# Altium integrated library Lattice Semiconductor ECP3.IntLib: 126 symbols (part 8 of 29)
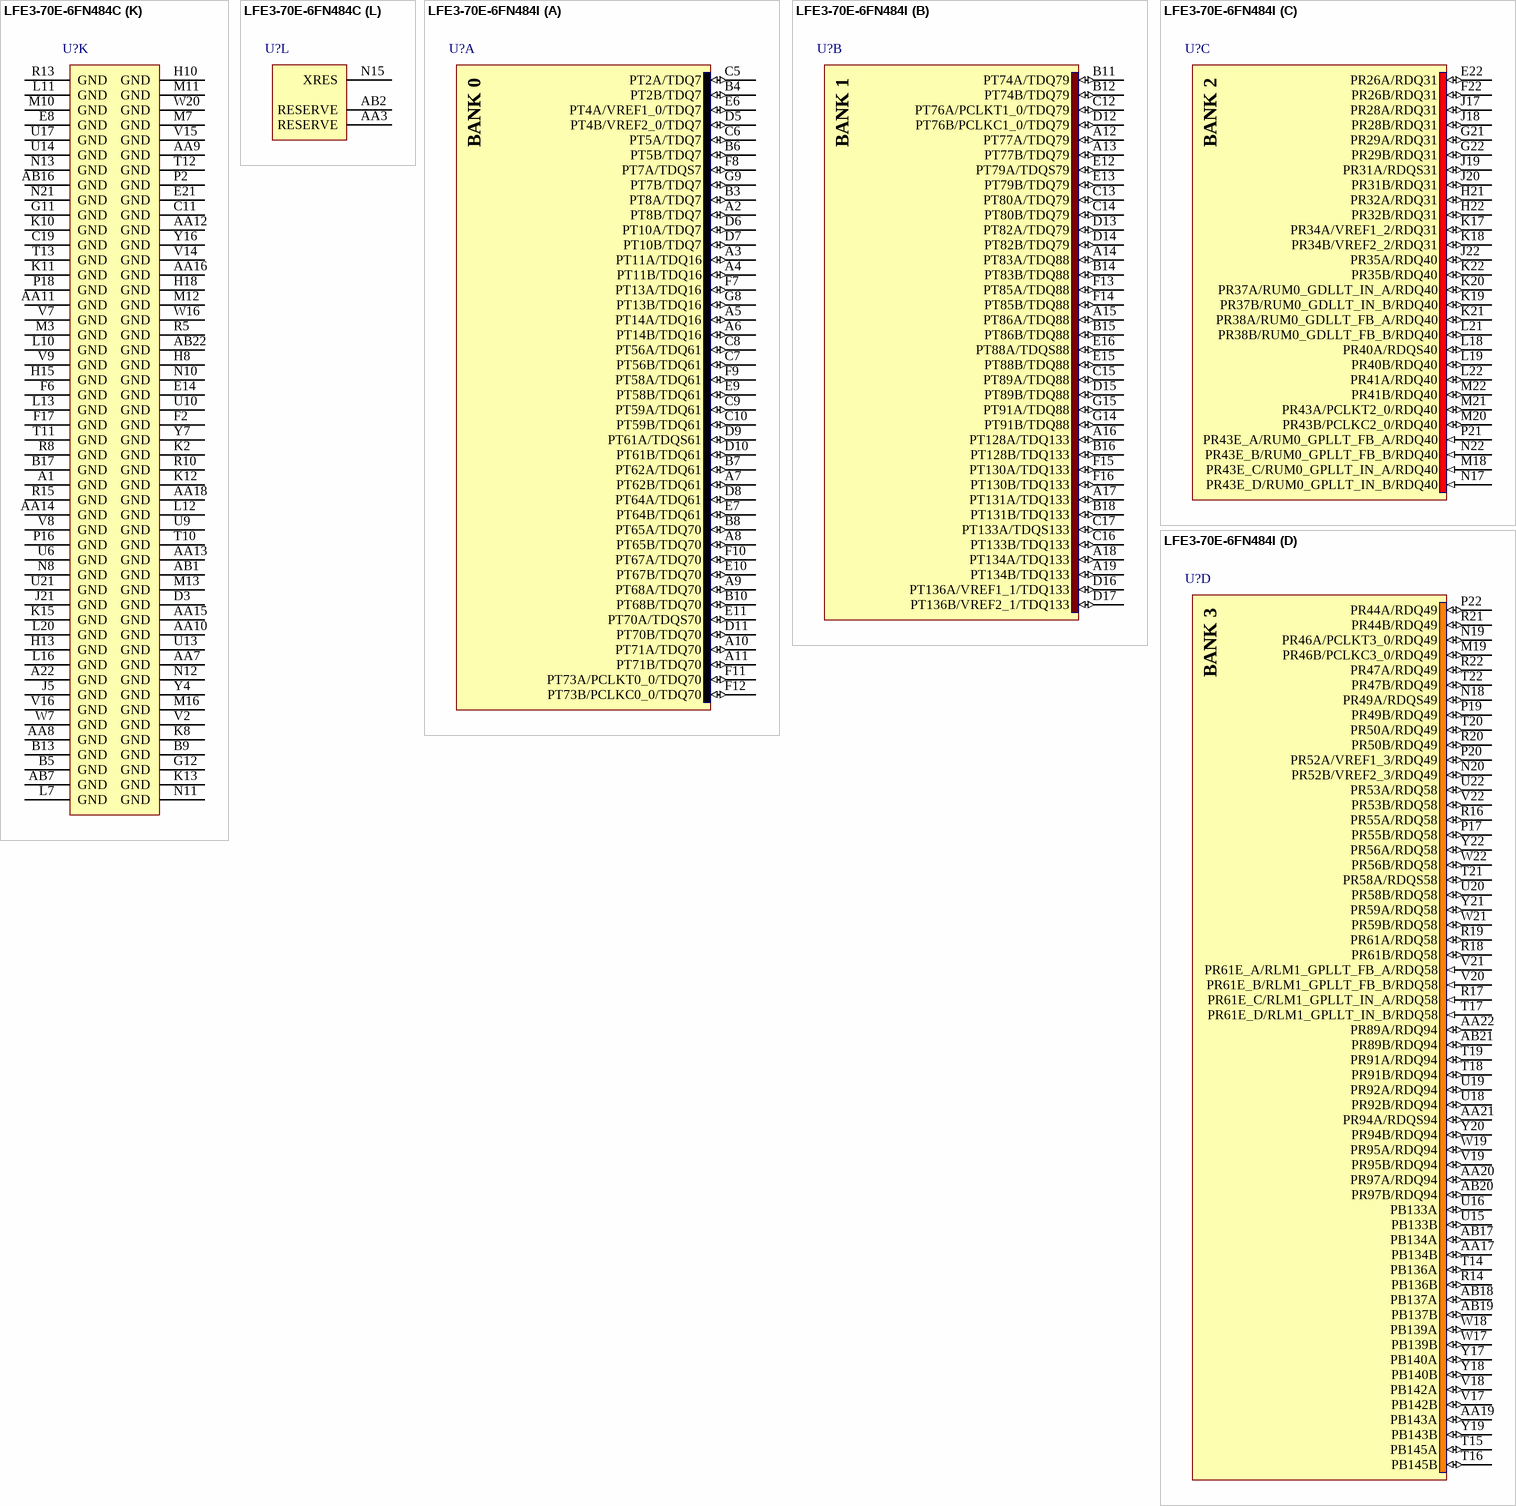
[diagram p362: symbols LFE3-70E-6FN484C to LFE3-70E-6FN484I]

## LFE3-70E-6FN484C
designator U?
ECP3 1.2V FPGA, 295 I/Os, 67K LUTs, 484-Pin BGA, Speed Grade 6, Commercial Grade, Pb-Free; DatasheetVersion: Ver 01.6, Mar-2010; PackageVersion: ver02.8, Jul-2011; PackageReference: fpBGA484; PackageDescription: 484-Ball Fine Pitch Ball Grid Array (fpBGA484); Code_IPC: BGA100P22X22-484; ComponentLink1Description: Manufacturer URL; ComponentLink1URL: http://www.latticesemi.com/
footprint fpBGA484 (BGA, 484-Leads, Body 23x23mm, Pitch 1mm)
part A pins: A2 PT8B/TDQ7 (io), A3 PT11A/TDQ16 (io), A4 PT11B/TDQ16 (io), A5 PT14A/TDQ16 (io), A6 PT14B/TDQ16 (io), A7 PT62B/TDQ61 (io), A8 PT65B/TDQ70 (io), A9 PT68A/TDQ70 (io), A10 PT71A/TDQ70 (io), A11 PT71B/TDQ70 (io), B3 PT8A/TDQ7 (io), B4 PT2B/TDQ7 (io), B6 PT5B/TDQ7 (io), B7 PT62A/TDQ61 (io), B8 PT65A/TDQ70 (io), B10 PT68B/TDQ70 (io), C5 PT2A/TDQ7 (io), C6 PT5A/TDQ7 (io), C7 PT56B/TDQ61 (io), C8 PT56A/TDQ61 (io), C9 PT59A/TDQ61 (io), C10 PT59B/TDQ61 (io), D5 PT4B/VREF2_0/TDQ7 (io), D6 PT10A/TDQ7 (io), D7 PT10B/TDQ7 (io), D8 PT64A/TDQ61 (io), D9 PT61A/TDQS61 (io), D10 PT61B/TDQ61 (io), D11 PT70B/TDQ70 (io), E6 PT4A/VREF1_0/TDQ7 (io), E7 PT64B/TDQ61 (io), E9 PT58B/TDQ61 (io), E10 PT67B/TDQ70 (io), E11 PT70A/TDQS70 (io), F7 PT13A/TDQ16 (io), F8 PT7A/TDQS7 (io), F9 PT58A/TDQ61 (io), F10 PT67A/TDQ70 (io), F11 PT73A/PCLKT0_0/TDQ70 (io), F12 PT73B/PCLKC0_0/TDQ70 (io), G8 PT13B/TDQ16 (io), G9 PT7B/TDQ7 (io)
part B pins: A12 PT77A/TDQ79 (io), A13 PT77B/TDQ79 (io), A14 PT83A/TDQ88 (io), A15 PT86A/TDQ88 (io), A16 PT128A/TDQ133 (io), A17 PT131A/TDQ133 (io), A18 PT134A/TDQ133 (io), A19 PT134B/TDQ133 (io), B11 PT74A/TDQ79 (io), B12 PT74B/TDQ79 (io), B14 PT83B/TDQ88 (io), B15 PT86B/TDQ88 (io), B16 PT128B/TDQ133 (io), B18 PT131B/TDQ133 (io), C12 PT76A/PCLKT1_0/TDQ79 (io), C13 PT80A/TDQ79 (io), C14 PT80B/TDQ79 (io), C15 PT89A/TDQ88 (io), C16 PT133B/TDQ133 (io), C17 PT133A/TDQS133 (io), D12 PT76B/PCLKC1_0/TDQ79 (io), D13 PT82A/TDQ79 (io), D14 PT82B/TDQ79 (io), D15 PT89B/TDQ88 (io), D16 PT136A/VREF1_1/TDQ133 (io), D17 PT136B/VREF2_1/TDQ133 (io), E12 PT79A/TDQS79 (io), E13 PT79B/TDQ79 (io), E15 PT88B/TDQ88 (io), E16 PT88A/TDQS88 (io), F13 PT85A/TDQ88 (io), F14 PT85B/TDQ88 (io), F15 PT130A/TDQ133 (io), F16 PT130B/TDQ133 (io), G14 PT91B/TDQ88 (io), G15 PT91A/TDQ88 (io)
part C pins: E22 PR26A/RDQ31 (io), F22 PR26B/RDQ31 (io), G21 PR29A/RDQ31 (io), G22 PR29B/RDQ31 (io), H21 PR32A/RDQ31 (io), H22 PR32B/RDQ31 (io), J17 PR28A/RDQ31 (io), J18 PR28B/RDQ31 (io), J19 PR31A/RDQS31 (io), J20 PR31B/RDQ31 (io), J22 PR35A/RDQ40 (io), K17 PR34A/VREF1_2/RDQ31 (io), K18 PR34B/VREF2_2/RDQ31 (io), K19 PR37B/RUM0_GDLLT_IN_B/RDQ40 (io), K20 PR37A/RUM0_GDLLT_IN_A/RDQ40 (io), K21 PR38A/RUM0_GDLLT_FB_A/RDQ40 (io), K22 PR35B/RDQ40 (io), L18 PR40A/RDQS40 (io), L19 PR40B/RDQ40 (io), L21 PR38B/RUM0_GDLLT_FB_B/RDQ40 (io), L22 PR41A/RDQ40 (io), M18 PR43E_C/RUM0_GPLLT_IN_A/RDQ40 (in), M20 PR43B/PCLKC2_0/RDQ40 (io), M21 PR43A/PCLKT2_0/RDQ40 (io), M22 PR41B/RDQ40 (io), N17 PR43E_D/RUM0_GPLLT_IN_B/RDQ40 (in), N22 PR43E_B/RUM0_GPLLT_FB_B/RDQ40 (in), P21 PR43E_A/RUM0_GPLLT_FB_A/RDQ40 (in)
part D pins: AA17 PB134B (io), AA19 PB143A (io), AA20 PR97A/RDQ94 (io), AA21 PR94A/RDQS94 (io), AA22 PR89A/RDQ94 (io), AB17 PB134A (io), AB18 PB137A (io), AB19 PB137B (io), AB20 PR97B/RDQ94 (io), AB21 PR89B/RDQ94 (io), M19 PR46B/PCLKC3_0/RDQ49 (io), N18 PR49A/RDQS49 (io), N19 PR46A/PCLKT3_0/RDQ49 (io), N20 PR52B/VREF2_3/RDQ49 (io), P17 PR55B/RDQ58 (io), P19 PR49B/RDQ49 (io), P20 PR52A/VREF1_3/RDQ49 (io), P22 PR44A/RDQ49 (io), R14 PB136B (io), R16 PR55A/RDQ58 (io), R17 PR61E_C/RLM1_GPLLT_IN_A/RDQ58 (in), R18 PR61B/RDQ58 (io), R19 PR61A/RDQ58 (io), R20 PR50B/RDQ49 (io), R21 PR44B/RDQ49 (io), R22 PR47A/RDQ49 (io), T14 PB136A (io), T15 PB145A (io), T16 PB145B (io), T17 PR61E_D/RLM1_GPLLT_IN_B/RDQ58 (in), T18 PR91B/RDQ94 (io), T19 PR91A/RDQ94 (io), T20 PR50A/RDQ49 (io), T21 PR58A/RDQS58 (io), T22 PR47B/RDQ49 (io), U15 PB133B (io), U16 PB133A (io), U18 PR92B/RDQ94 (io), U19 PR92A/RDQ94 (io), U20 PR58B/RDQ58 (io), U22 PR53A/RDQ58 (io), V17 PB142B (io), V18 PB142A (io), V19 PR95B/RDQ94 (io), V20 PR61E_B/RLM1_GPLLT_FB_B/RDQ58 (in), V21 PR61E_A/RLM1_GPLLT_FB_A/RDQ58 (in), V22 PR53B/RDQ58 (io), W17 PB139B (io), W18 PB139A (io), W19 PR95A/RDQ94 (io), W21 PR59B/RDQ58 (io), W22 PR56B/RDQ58 (io), Y17 PB140A (io), Y18 PB140B (io), Y19 PB143B (io), Y20 PR94B/RDQ94 (io), Y21 PR59A/RDQ58 (io), Y22 PR56A/RDQ58 (io)
part E pins: AA1 PL92A/LDQ94 (io), AA2 PL95B/LDQ94 (io), AA4 PB5A (io), AA5 PB5B (io), AA6 PB11B (io), AB3 PB2A (io), AB4 PB2B (io), AB5 PB8A (io), AB6 PB8B (io), L2 PL44B/LDQ49 (io), L3 PL44A/LDQ49 (io), L4 PL46A/PCLKT6_0/LDQ49 (io), M1 PL47B/LDQ49 (io), M2 PL47A/LDQ49 (io), M4 PL46B/PCLKC6_0/LDQ49 (io), M5 PL49A/LDQS49 (io), N1 PL50B/LDQ49 (io), N2 PL50A/LDQ49 (io), N3 PL53A/LDQ58 (io), N4 PL52A/VREF1_6/LDQ49 (io), N5 PL55A/LDQ58 (io), N6 PL49B/LDQ49 (io), P1 PL56A/LDQ58 (io), P3 PL53B/LDQ58 (io), P4 PL52B/VREF2_6/LDQ49 (io), P5 PL58A/LDQS58 (io), P6 PL55B/LDQ58 (io), P7 PL82B/LDQ85 (io), R1 PL56B/LDQ58 (io), R2 PL59B/LDQ58 (io), R3 PL59A/LDQ58 (io), R4 PL88A/LDQ85 (io), R6 PL58B/LDQ58 (io), R7 PL85A/LDQS85 (io), R9 PB16A (io), T1 PL61E_B/LLM1_GPLLT_FB_B (in), T2 PL61E_A/LLM1_GPLLT_FB_A (in), T3 PL61E_C/LLM1_GPLLT_IN_A (in), T4 PL91A/LDQ94 (io), T5 PL88B/LDQ85 (io), T6 PL94A/LDQS94 (io), T7 PL85B/LDQ85 (io), T8 PB13B (io), T9 PB16B (io), U1 PL61A/LDQ58 (io), U2 PL61B/LDQ58 (io), U3 PL61E_D/LLM1_GPLLT_IN_B (in), U4 PL91B/LDQ94 (io), U5 PL94B/LDQ94 (io), U7 PB10B (io), U8 PB13A (io), V1 PL83A/LDQ85 (io), V3 PL86A/LDQ85 (io), V4 PL97A/LDQ94 (io), V5 PL97B/LDQ94 (io), V6 PB10A (io), W1 PL83B/LDQ85 (io), W2 PL89A/LDQ94 (io), W3 PL86B/LDQ85 (io), W4 PB4A (io), W5 PB7A (io), W6 PB7B (io), Y1 PL89B/LDQ94 (io), Y2 PL92B/LDQ94 (io), Y3 PL95A/LDQ94 (io), Y5 PB4B (io), Y6 PB11A (io)
part F pins: B1 PL29A/LDQ31 (io), B2 PL11A/LDQ13 (io), C1 PL29B/LDQ31 (io), C2 PL11B/LDQ13 (io), D1 PL14B/LDQ13 (io), D2 PL14A/LDQ13 (io), D4 PL8B/LDQ13 (io), E1 PL34A/VREF1_7/LDQ31 (io), E2 PL26A/LDQ31 (io), E3 PL8A/LDQ13 (io), E4 PL10B/LDQ13 (io), E5 PL10A/LDQ13 (io), F1 PL34B/VREF2_7/LDQ31 (io), F3 PL26B/LDQ31 (io), F4 PL13B/LDQ13 (io), F5 PL13A/LDQS13 (io), G1 PL35A/LDQ40 (io), G2 PL32B/LDQ31 (io), G3 PL32A/LDQ31 (io), G4 PL16A/LDQ13 (io), G5 PL16B/LDQ13 (io), H1 PL35B/LDQ40 (io), H2 PL38A/LUM0_GDLLT_FB_A/LDQ40 (io), H3 PL38B/LUM0_GDLLT_FB_B/LDQ40 (io), H4 PL28A/LDQ31 (io), H5 PL31A/LDQS31 (io), H6 PL31B/LDQ31 (io), J1 PL41B/LDQ40 (io), J2 PL41A/LDQ40 (io), J3 PL40A/LDQS40 (io), J4 PL28B/LDQ31 (io), J6 PL37B/LUM0_GDLLT_IN_B/LDQ40 (io), J7 PL37A/LUM0_GDLLT_IN_A/LDQ40 (io), K1 PL43E_A/LUM0_GPLLT_FB_A (in), K3 PL40B/LDQ40 (io), K4 PL43A/PCLKT7_0/LDQ40 (io), K5 PL43B/PCLKC7_0/LDQ40 (io), K6 PL43E_D/LUM0_GPLLT_IN_B (in), L1 PL43E_B/LUM0_GPLLT_FB_B (in), L5 PL43E_C/LUM0_GPLLT_IN_A (in)
part G pins: A20 PT143A (io), A21 PR8A/DOUT/CSON/CSSPI1N (io), B19 PT140B (io), B20 PT143B (io), B22 PR8B/MCLK (io), C18 PT140A (io), C21 PR5A (io), C22 PR11A/D1 (io), D18 PT145A (io), D19 PT145B (io), D21 PR5B/DI/CSSPI0N/CSSPIN (io), D22 PR11B/D2 (io), E17 PT142B (io), E18 PT142A (io), F18 PR7B/CSN/SN/CONT1N (io), F19 PR7A/CS1N/HOLDN/CONT2N (io), G17 PR13A/D3/SI (io), G18 PR13B/D4/SO (io), G19 PR14A/D5 (io), G20 PR14B/D6/SPID1 (io), H17 PR10B/D0/SPIFASTN (io), H19 PR16A/D7/SPID0 (io), H20 PR16B/BUSY/SISPI (io), J16 PR10A/WRITEN (io)
part H pins: B21 CFG2 (in), C3 TDO (out), C4 TMS (in), C20 PROGRAMN (in), D20 INITN (io), E19 CFG1 (in), E20 CFG0 (in), F20 CCLK (in), F21 DONE (io), G6 TDI (in), G7 TCK (in)
part I pins: AB8 PCSA_HDOUTP3 (out), AB9 PCSA_HDOUTN3 (out), AB10 PCSA_HDOUTN2 (out), AB11 PCSA_HDOUTP2 (out), AB12 PCSA_HDOUTP1 (out), AB13 PCSA_HDOUTN1 (out), AB14 PCSA_HDOUTN0 (out), AB15 PCSA_HDOUTP0 (out), V11 PCSA_REFCLKN (in), V12 PCSA_REFCLKP (in), Y8 PCSA_HDINP3 (in), Y9 PCSA_HDINN3 (in), Y10 PCSA_HDINN2 (in), Y11 PCSA_HDINP2 (in), Y12 PCSA_HDINP1 (in), Y13 PCSA_HDINN1 (in), Y14 PCSA_HDINN0 (in), Y15 PCSA_HDINP0 (in)
part J pins: G10 VCCIO0 (power), G13 VCCIO1 (power), G16 VCCIO8 (power), H7 VCCJ (power), H9 VCCIO0 (power), H11 VCCAUX (power), H12 VCCAUX (power), H14 VCCIO1 (power), H16 VCCIO8 (power), J8 VCCIO7 (power), J9 VCC (power), J10 VCC (power), J11 VCC (power), J12 VCC (power), J13 VCC (power), J14 VCC (power), J15 VCCIO2 (power), K7 VCCIO7 (power), K9 VCCPLL_L (power), K14 VCCPLL_R (power), K16 VCCIO2 (power), L6 VTT7 (power), L8 VCCAUX (power), L9 VCC (power), L14 VCC (power), L15 VCCAUX (power), L17 VTT2 (power), M6 VTT6 (power), M8 VCCAUX (power), M9 VCC (power), M14 VCC (power), M15 VCCAUX (power), M17 VTT3 (power), N7 VCCIO6 (power), N9 VCCPLL_L (power), N14 VCCPLL_R (power), N16 VCCIO3 (power), P8 VCCIO6 (power), P9 VCC (power), P10 VCC (power), P11 VCC (power), P12 VCC (power), P13 VCC (power), P14 VCC (power), P15 VCCIO3 (power), R11 VCCAUX (power), R12 VCCAUX (power), U11 VCCA (power), U12 VCCA (power), V10 VCCA (power), V13 VCCA (power), W8 PCSA_VCCIB3 (power), W9 PCSA_VCCOB3 (power), W10 PCSA_VCCOB2 (power), W11 PCSA_VCCIB2 (power), W12 PCSA_VCCIB1 (power), W13 PCSA_VCCOB1 (power), W14 PCSA_VCCOB0 (power), W15 PCSA_VCCIB0 (power)
part K pins: A1 GND (power), A22 GND (power), AA7 GND (power), AA8 GND (power), AA9 GND (power), AA10 GND (power), AA11 GND (power), AA12 GND (power), AA13 GND (power), AA14 GND (power), AA15 GND (power), AA16 GND (power), AA18 GND (power), AB1 GND (power), AB7 GND (power), AB16 GND (power), AB22 GND (power), B5 GND (power), B9 GND (power), B13 GND (power), B17 GND (power), C11 GND (power), C19 GND (power), D3 GND (power), E8 GND (power), E14 GND (power), E21 GND (power), F2 GND (power), F6 GND (power), F17 GND (power), G11 GND (power), G12 GND (power), H8 GND (power), H10 GND (power), H13 GND (power), H15 GND (power), H18 GND (power), J5 GND (power), J21 GND (power), K2 GND (power), K8 GND (power), K10 GND (power), K11 GND (power), K12 GND (power), K13 GND (power), K15 GND (power), L7 GND (power), L10 GND (power), L11 GND (power), L12 GND (power), L13 GND (power), L16 GND (power), L20 GND (power), M3 GND (power), M7 GND (power), M10 GND (power), M11 GND (power), M12 GND (power), M13 GND (power), M16 GND (power), N8 GND (power), N10 GND (power), N11 GND (power), N12 GND (power), N13 GND (power), N21 GND (power), P2 GND (power), P16 GND (power), P18 GND (power), R5 GND (power), R8 GND (power), R10 GND (power), R13 GND (power), R15 GND (power), T10 GND (power), T11 GND (power), T12 GND (power), T13 GND (power), U6 GND (power), U9 GND (power), U10 GND (power), U13 GND (power), U14 GND (power), U17 GND (power), U21 GND (power), V2 GND (power), V7 GND (power), V8 GND (power), V9 GND (power), V14 GND (power), V15 GND (power), V16 GND (power), W7 GND (power), W16 GND (power), W20 GND (power), Y4 GND (power), Y7 GND (power), Y16 GND (power)
part L pins: AA3 RESERVE, AB2 RESERVE, N15 XRES
part A text: BANK 0
part B text: BANK 1
part C text: BANK 2
part D text: BANK 3
part E text: BANK 6
part F text: BANK 7
part G text: BANK 8

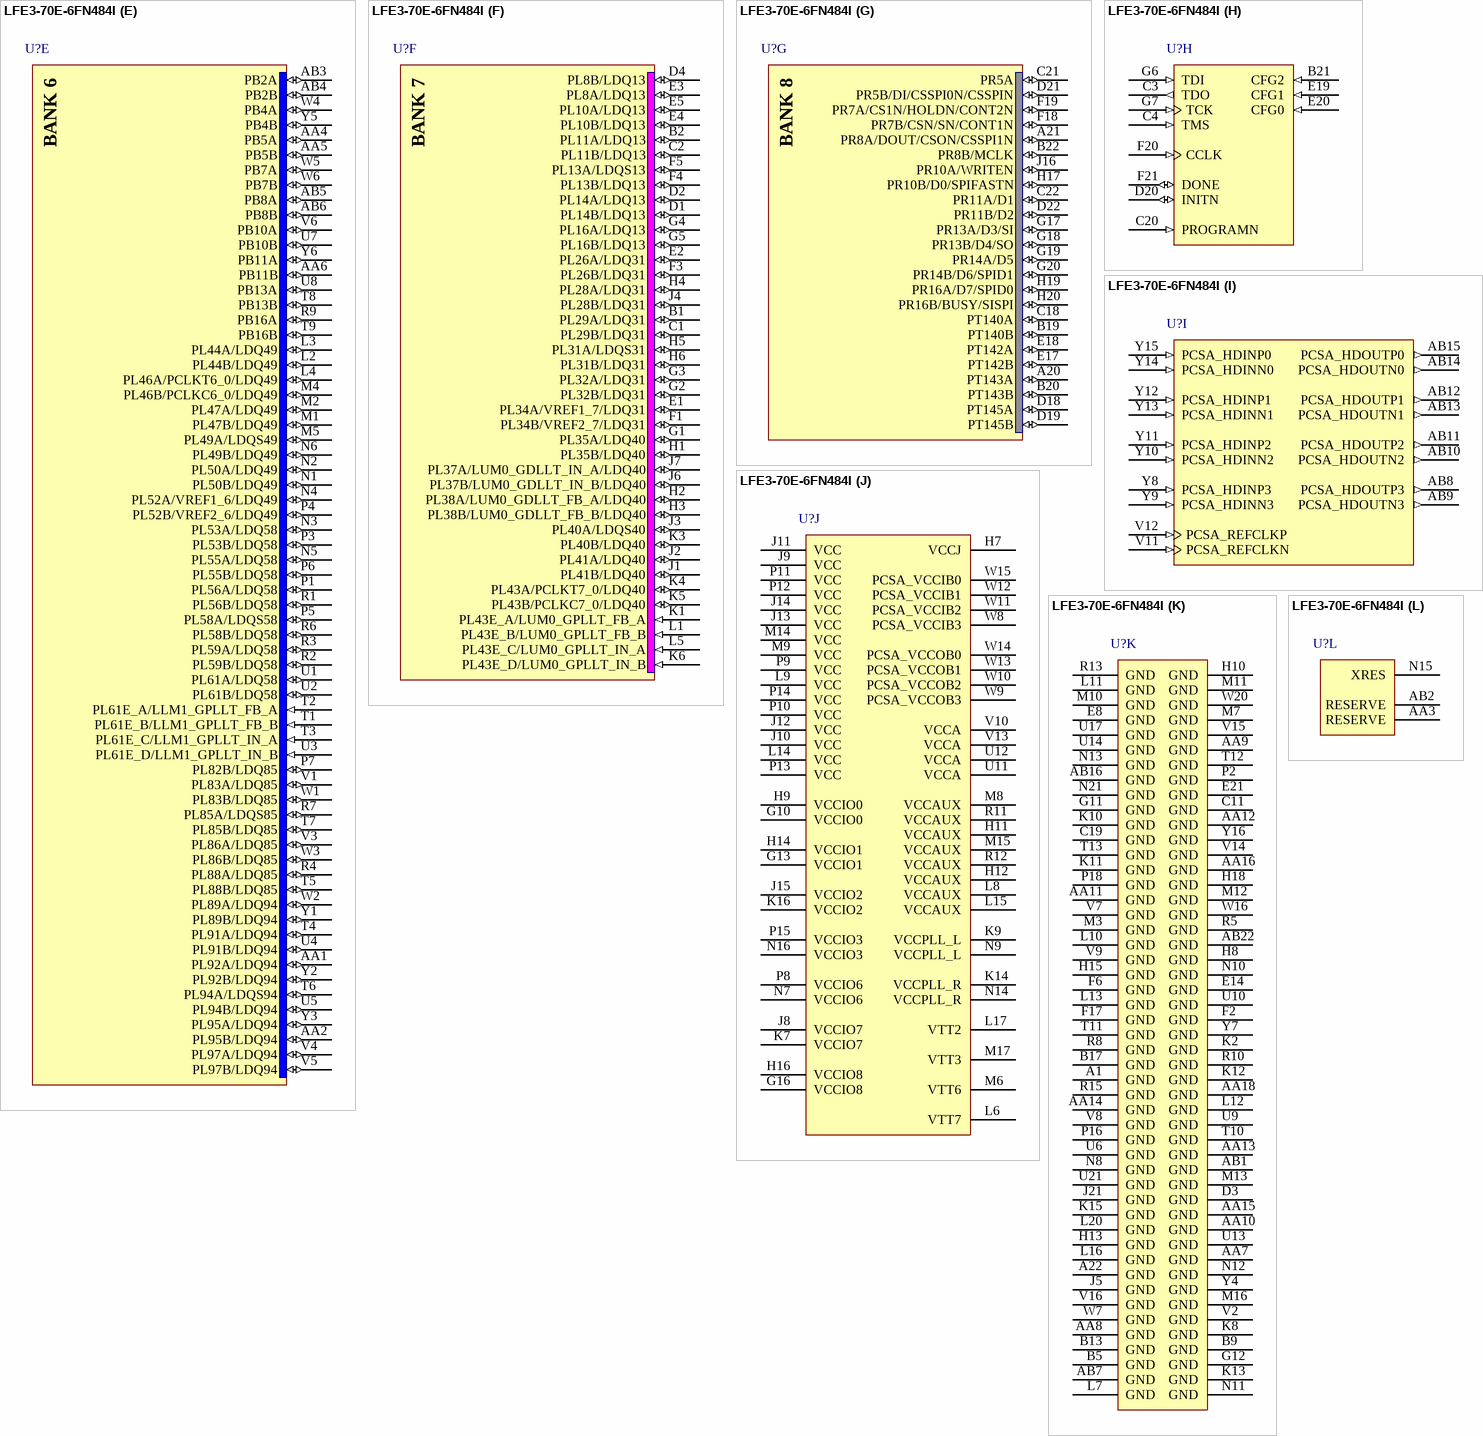
[diagram p44: symbol LFE3-70E-6FN484I]